# Altium integrated library Connectors.IntLib: 20 symbols
Pins are listed as number, name and electrical type; pins without a type are passive.

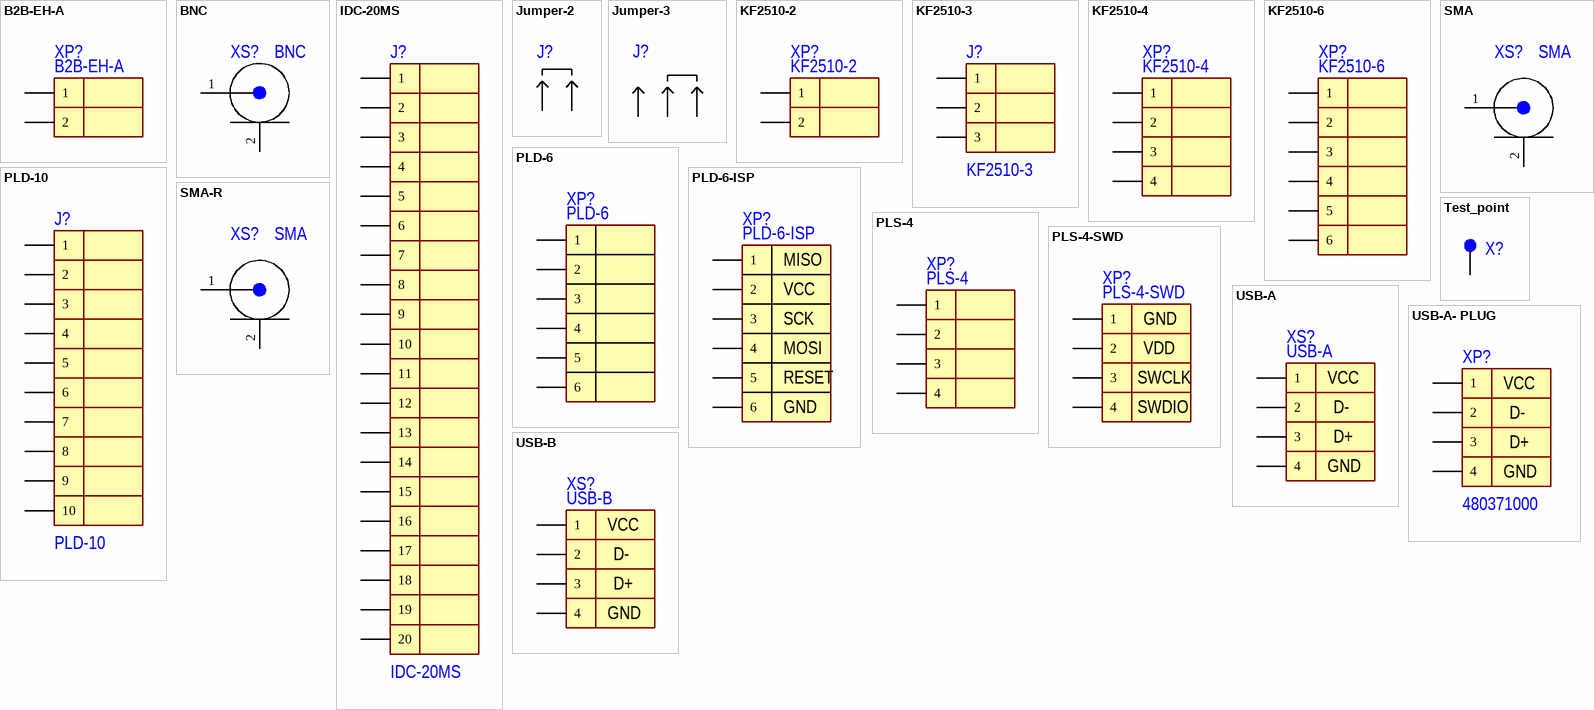
[diagram p0: symbols B2B-EH-A to USB-B]

## B2B-EH-A
designator XP?
Manufacturer: JST Sales America Inc.; PartNumber: B2B-EH-A
footprint B2B-EH-A
pins: 1, 2

## BNC
designator XS?
PartNumber: BNC
footprint BNC
pins: 1, 2

## IDC-20MS
designator J?
PartNumber: IDC-20MS
footprint IDC-20MS
pins: 1, 2, 3, 4, 5, 6, 7, 8, 9, 10, 11, 12, 13, 14, 15, 16, 17, 18, 19, 20

## Jumper-2
designator J?
JUMPER PLS-2; PartNumber: PLS-2
footprint PLS-2
pins: 1, 2

## Jumper-3
designator J?
JUMPER PLS-3; PartNumber: PLS-3
footprint PLS-3
pins: 1, 2, 3

## KF2510-2
designator XP?
PartNumber: KF2510-2
footprint KF2510-2
pins: 1, 2

## KF2510-3
designator J?
PartNumber: KF2510-3
footprint KF2510-3
pins: 1, 2, 3

## KF2510-4
designator XP?
PartNumber: KF2510-4
footprint KF2510-4
pins: 1, 2, 3, 4

## KF2510-6
designator XP?
PartNumber: KF2510-6
footprint KF2510-6
pins: 1, 2, 3, 4, 5, 6

## PLD-6
designator XP?
PartNumber: PLD-6
footprint PLD-6
pins: 1, 2, 3, 4, 5, 6

## PLD-6-ISP
designator XP?
AVR-ISP Prog; PartNumber: PLD-6
footprint PLD-6-ISP
pins: 1, 2, 3, 4, 5, 6
text: MISO; VCC; SCK; MOSI; RESET; GND

## PLD-10
designator J?
footprint PLD-10
pins: 1, 2, 3, 4, 5, 6, 7, 8, 9, 10

## PLS-4
designator XP?
PartNumber: PLS-4
footprint PLS-4
pins: 1, 2, 3, 4

## PLS-4-SWD
designator XP?
STM-SWD; PartNumber: PLS-4
footprint PLS-4-SWD
pins: 1, 2, 3, 4
text: GND; VDD; SWCLK; SWDIO

## SMA
designator XS?
PartNumber: SMA
footprint SMA
pins: 1, 2

## SMA-R
designator XS?, comment SMA
footprint SMA-R
footprint SMA-R - gold
pins: 1, 2

## Test_point
designator X?
footprint Test_point
pins: 1

## USB-A
designator XS?
PartNumber: USB-A
footprint USB-A
pins: 1, 2, 3, 4
text: VCC; D-; D+; GND

## USB-A- PLUG
designator XP?, comment 480371000
Universal Serial Bus (USB) Shielded I/O Plug, Type A, Right Angle, Surface Mount, / 0.76µm Gold (Au) Plating, PCB Thickness 1.20mm-1.60mm, Tray Package, Lead-Free; Manufacturer: MOLEX; PartNumber: 480371000
footprint MOLEX 480371000 (CONN, 4-Leads, Body 12x18.8mm)
pins: 1, 2, 3, 4
text: VCC; D-; D+; GND

## USB-B
designator XS?
PartNumber: USB-B
footprint USB-B
pins: 1, 2, 3, 4
text: VCC; D-; D+; GND